# Altium schematic symbol library Symbol.SchLib: 31 symbols
Pins are listed as number, name and electrical type; pins without a type are passive.

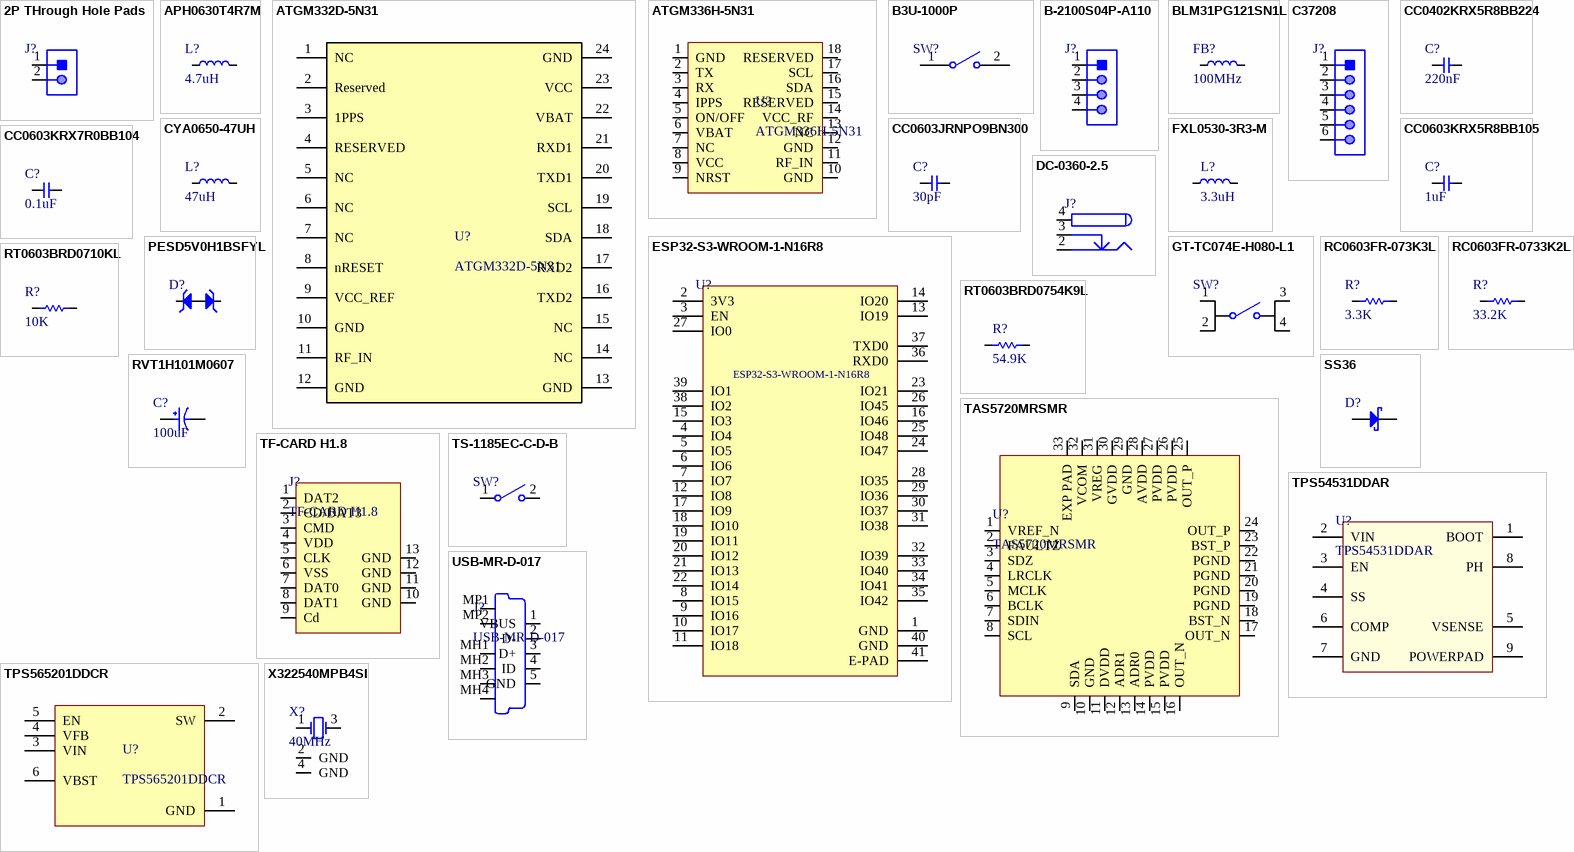
[diagram p0: symbols 2P THrough Hole Pads to X322540MPB4SI]

## 2P THrough Hole Pads
designator J?
Wire Connecting Pad; Manufacturer Part Number: 2P THrough Hole Pads; Item Type: THrough Hole Pads
footprint 2P THrough Hole Pads
pins: 1, 2

## APH0630T4R7M
designator L?, comment 4.7uH
4.7uH 5.15A Molding Choke ±20% 7.47A SMD,7x6.6mm Power Inductors ROHS; Manufacturer: APV; Manufacturer Part Number: APH0630T4R7M; LCSC Part Number: C5349705; Item Type: Inductor; Package: SMD,7x6.6mm; ComponentLink1Description: LCSC; ComponentLink1URL: https://www.lcsc.com/product-detail/Power-Inductors_APV-APH0630T4R7M_C5349705.html
footprint APH0630T4R7M
pins: 1, 2

## ATGM332D-5N31
designator U?
Satellite Positioning Modules ROHS, SMD,12.2x16mm; ComponentLink1Description: LCSC; ComponentLink1URL: https://www.lcsc.com/product-detail/Satellite-Positioning-Modules_ZHONGKEWEI-ATGM332D-5N31_C128659.html
footprint ATGM332D-5N31
pins: 1 NC, 2 Reserved, 3 1PPS, 4 RESERVED, 5 NC, 6 NC, 7 NC, 8 nRESET, 9 VCC_REF, 10 GND, 11 RF_IN, 12 GND, 13 GND, 14 NC, 15 NC, 16 TXD2, 17 RXD2, 18 SDA, 19 SCL, 20 TXD1, 21 RXD1, 22 VBAT, 23 VCC, 24 GND

## ATGM336H-5N31
designator U?
SMD,9.7x10.1mm Satellite Positioning Modules ROHS; Manufacturer: ZHONGKEWEI; Item Type: IC; Manufacturer Part Number: ATGM336H-5N31; Package: SMD,9.7x10.1mm; LCSC Part Number: C90770
footprint ATGM336H
pins: 1 GND, 2 TX, 3 RX, 4 IPPS, 5 ON/OFF, 6 VBAT, 7 NC, 8 VCC, 9 NRST, 10 GND, 11 RF_IN, 12 GND, 13 NC, 14 VCC_RF, 15 RESERVED, 16 SDA, 17 SCL, 18 RESERVED

## B3U-1000P
designator SW?
SWITCH TACTILE SPST-NO 0.05A 12V; Manufacturer: Omron; Manufacturer Part Number: B3U-1000P; Mechanical Life: 200000Cycles; Operating Force: 1.5N; Throw Configuration: SPST; Current Rating: 50mA; Contact Resistance: 100mR; Illumination Type: Non-Illuminated,Illuminated; Switch Travel: 0.15mm; Switch Function: Off-Mom; Actuator Type: Standard; Actuator Length: 0.4mm; Ratings: Dust Proof,IP40; ComponentLink1URL: http://www.farnell.com/datasheets/60838.pdf?src-supplier=Farnell; ComponentLink1Description: http://www.farnell.com/datasheets/60838.pdf?src-supplier=Farnell; ComponentLink2URL: http://www.farnell.com/datasheets/60838.pdf?src-supplier=Element14; ComponentLink2Description: http://www.farnell.com/datasheets/60838.pdf?src-supplier=Element14; ComponentLink3URL: https://omronfs.omron.com/en_US/ecb/products/pdf/en-b3u.pdf?src-supplier=Digi-Key; ComponentLink3Description: https://omronfs.omron.com/en_US/ecb/products/pdf/en-b3u.pdf?src-supplier=Digi-Key; ComponentLink4URL: http://www.omron.com/ecb/products/pdf/en-b3u.pdf?src-supplier=Digi-Key; ComponentLink4Description: http://www.omron.com/ecb/products/pdf/en-b3u.pdf?src-supplier=Digi-Key; ComponentLink5URL: https://www.distrelec.biz/Web/Downloads/he/et/B3U_eng_datasheet.pdf?mime=application%2Fpdf&src-supplier=Distrelec; ComponentLink5Description: https://www.distrelec.biz/Web/Downloads/he/et/B3U_eng_datasheet.pdf?mime=application%2Fpdf&src-supplier=Distrelec; ComponentLink6URL: http://www.onlinecomponents.com/productFiles/mf-OM/en-b3u.pdf?src-supplier=Onlinecomponents.com; ComponentLink6Description: http://www.onlinecomponents.com/productFiles/mf-OM/en-b3u.pdf?src-supplier=Onlinecomponents.com; Supplier 1: Digi-Key; Stock 1: 116454; Pricing 1: 1=1, 10=0.961, 25=0.9064, 50=0.7976, 100=0.7251, 250=0.68888, 500=0.67074, 1000=0.52571 (USD); Mount: Surface Mount; Weight: 0.000776oz; Contact Material: Silver; Min Operating Temperature: -25°C; Max Operating Temperature: 70°C; Packaging: Tape and Reel; Voltage Rating (DC): 12V; Package Quantity: 1; Max Current Rating: 50mA; Termination: SMD/SMT; Orientation: Straight; Max Voltage Rating (DC): 12V; Electrical Life: 200000Cycles; Insulation Resistance: 100MR; Contact Current Rating: 50mA; Length: 4mm; Height: 1.2mm; Depth: 2.5mm; Width: 3mm; REACH SVHC: Unknown; Lead Free: Lead Free; ComponentLink7URL: https://www.verical.com/server-webapp/html/getDatasheet?partID=552554&src-supplier=Verical; ComponentLink7Description: https://www.verical.com/server-webapp/html/getDatasheet?partID=552554&src-supplier=Verical; ComponentLink8URL: http://www.farnell.com/datasheets/1685550.pdf?src-supplier=Element14; ComponentLink8Description: http://www.farnell.com/datasheets/1685550.pdf?src-supplier=Element14; ComponentLink9URL: http://www.farnell.com/datasheets/2610940.pdf?src-supplier=Farnell; ComponentLink9Description: http://www.farnell.com/datasheets/2610940.pdf?src-supplier=Farnell; ComponentLink10URL: https://www.alliedelec.com/m/d/4c8a9ef82804fc3c241a13c1e298fd73.pdf?src-supplier=Allied+Electronics; ComponentLink10Description: https://www.alliedelec.com/m/d/4c8a9ef82804fc3c241a13c1e298fd73.pdf?src-supplier=Allied+Electronics; Supplier Part Number 1: SW1020DKR-ND; LCSC Part Number: C231329; Item Type: Switch
footprint B3U-1000P (SWITCH TACTILE SPST-NO 0.05A 12V)
pins: 1, 2

## B-2100S04P-A110
designator J?
Straight 2.54mm Black Brass 1x4P Plugin,P=2.54mm Pin Headers ROHS; Manufacturer: Ckmtw; Manufacturer Part Number: B-2100S04P-A110; Item Type: Header; LCSC Part Number: C124378; ComponentLink1Description: LCSC; ComponentLink1URL: https://www.lcsc.com/product-detail/Pin-Headers_Ckmtw-Shenzhen-Cankemeng-B-2100S04P-A110_C124378.html
footprint HDR1X4
pins: 1, 2, 3, 4

## BLM31PG121SN1L
designator FB?, comment 100MHz
FERRITE BEAD 120 OHM 1206 1LN; Manufacturer: Murata; Manufacturer Part Number: BLM31PG121SN1L; Material: Steel,Ferrite; Tolerance: 25%; Impedance: 120R; Max Current Rating: 3.5A; Number of Lines: 1; DC Resistance (DCR): 20mR; Max DC Current: 3A; Shielding: Unshielded; Supplier 1: Avnet; RoHS: Yes; Category: Ferrite Beads and Chips; Stock 1: 290640; Pricing 1: 3000=0.11563, 6000=0.10938, 12000=0.10313, 18000=0.09688, 24000=0.09063, 30000=0.08438, 300000=0.07813 (USD); Case/Package: 1206; Number of Pins: 2; Core Material: Ferrite; Case Code (Metric): 3216; Case Code (Imperial): 1206; Contact Plating: Tin,Matte; Min Operating Temperature: -55°C; Max Operating Temperature: 125°C; Package Quantity: 3000; Packaging: Tape and Reel; Current Rating: 3.5A; Termination: SMD/SMT; Test Frequency: 100MHz; DC Current: 3A; Frequency: 100MHz; Length: 3.2mm; Width: 1.6mm; Height: 1.1mm; Depth: 1.6mm; Radiation Hardening: No; Military Standard: Not; Lead Free: Lead Free; RoHS Compliant: Yes; ComponentLink1URL: https://datasheet.ciiva.com/19460/1845419-19460234.pdf?src-supplier=Jameco; ComponentLink1Description: https://datasheet.ciiva.com/19460/1845419-19460234.pdf?src-supplier=Jameco; ComponentLink2URL: https://datasheet.ciiva.com/1012/l0132s0193blm31p-1012992.pdf?src-supplier=Digi-Key; ComponentLink2Description: https://datasheet.ciiva.com/1012/l0132s0193blm31p-1012992.pdf?src-supplier=Digi-Key; ComponentLink3URL: https://datasheet.ciiva.com/11799/0900766b811b5866-11799444.pdf?src-supplier=RSComponents; ComponentLink3Description: https://datasheet.ciiva.com/11799/0900766b811b5866-11799444.pdf?src-supplier=RSComponents; ComponentLink4URL: https://datasheet.ciiva.com/3081/l0110s0100blm31p-3081665.pdf?src-supplier=Avnet; ComponentLink4Description: https://datasheet.ciiva.com/3081/l0110s0100blm31p-3081665.pdf?src-supplier=Avnet; ComponentLink5URL: https://datasheet.ciiva.com/41449/001172383-da-01-en-drossel-1206-120r-3-2x1-60mm-3000st-41449554.pdf?src-supplier=Conrad; ComponentLink5Description: https://datasheet.ciiva.com/41449/001172383-da-01-en-drossel-1206-120r-3-2x1-60mm-3000st-41449554.pdf?src-supplier=Conrad; ComponentLink6URL: https://datasheet.ciiva.com/29348/442557-da-01-en-chip-drossel-1206-120r-3000ma-3-2x1-60mm-29348014.pdf?src-supplier=Conrad; ComponentLink6Description: https://datasheet.ciiva.com/29348/442557-da-01-en-chip-drossel-1206-120r-3000ma-3-2x1-60mm-29348014.pdf?src-supplier=Conrad; ComponentLink7URL: https://datasheet.ciiva.com/14122/apblm31p-data-e-14122856.pdf?src-supplier=Distrelec; ComponentLink7Description: https://datasheet.ciiva.com/14122/apblm31p-data-e-14122856.pdf?src-supplier=Distrelec; ComponentLink8URL: https://datasheet.ciiva.com/48436/blm31pg121sn1l-eng-tds-48436731.pdf?src-supplier=Distrelec; ComponentLink8Description: https://datasheet.ciiva.com/48436/blm31pg121sn1l-eng-tds-48436731.pdf?src-supplier=Distrelec; ComponentLink9URL: https://datasheet.ciiva.com/1012/l0110s0100blm31p-1012991.pdf?src-supplier=Digi-Key; ComponentLink9Description: https://datasheet.ciiva.com/1012/l0110s0100blm31p-1012991.pdf?src-supplier=Digi-Key; ComponentLink10URL: https://datasheet.ciiva.com/1012/l0110s0100blm31p-1012993.pdf?src-supplier=Digi-Key; ComponentLink10Description: https://datasheet.ciiva.com/1012/l0110s0100blm31p-1012993.pdf?src-supplier=Digi-Key; ComponentLink11URL: https://datasheet.ciiva.com/3081/l0110s0100blm31p-3081666.pdf?src-supplier=Avnet; ComponentLink11Description: https://datasheet.ciiva.com/3081/l0110s0100blm31p-3081666.pdf?src-supplier=Avnet; ComponentLink12URL: https://datasheet.ciiva.com/16390/l0110s0100blm31p-16390857.pdf?src-supplier=Future+Electronics; ComponentLink12Description: https://datasheet.ciiva.com/16390/l0110s0100blm31p-16390857.pdf?src-supplier=Future+Electronics; ComponentLink13URL: https://datasheet.ciiva.com/18093/getdatasheetpartid-152966-18093084.pdf?src-supplier=Verical; ComponentLink13Description: https://datasheet.ciiva.com/18093/getdatasheetpartid-152966-18093084.pdf?src-supplier=Verical; Supplier Part Number 1: BLM31PG121SN1L; LCSC Part Number: C85841; Item Type: Ferrite Bead
footprint IND-1206
pins: 1, 2

## C37208
designator J?
Straight 1 6 2.54mm Black Brass Plugin,P=2.54mm Pin Headers ROHS; Manufacturer: BOOMELEC; Manufacturer Part Number: C37208; Item Type: Header; Package: Custom; ComponentLink1Description: New link; ComponentLink1URL: https://www.lcsc.com/product-detail/Pin-Headers_BOOMELE-Boom-Precision-Elec-C37208_C37208.html; LCSC Part Number: C37208
footprint HDR1X6_ (Connector; Header; 6 Position)
pins: 1, 2, 3, 4, 5, 6

## CC0402KRX5R8BB224
designator C?, comment 220nF
CAP CER 0.22UF 25V X5R 0402; Manufacturer: Yageo; Manufacturer Part Number: CC0402KRX5R8BB224; Tolerance: 10%; Supplier 1: Mouser; RoHS: Yes; Category: Ceramic Capacitors; Stock 1: 61266; Pricing 1: 1=0.10000, 10=0.03300, 50=0.03300, 100=0.02700, 1000=0.01500, 10000=0.01300 (USD); Mount: Surface Mount; Case/Package: 0402; Min Operating Temperature: -55°C; Max Operating Temperature: 85°C; Packaging: Tape and Reel; Capacitance: 220nF; Voltage Rating: 25V; Voltage Rating (DC): 25V; Dielectric: X5R; Length: 0.039inch; Width: 0.02inch; Thickness: 0.022inch; Lead Free: Lead Free; Halogen Free: Halogen Free; RoHS Compliant: Yes; ComponentLink1URL: http://www.yageo.com/documents/recent/UPY-GPHC_X5R_4V-to-50V_25.pdf?src-supplier=Digi-Key; ComponentLink1Description: http://www.yageo.com/documents/recent/UPY-GPHC_X5R_4V-to-50V_25.pdf?src-supplier=Digi-Key; ComponentLink2URL: https://www.yageo.com/upload/media/product/productsearch/datasheet/mlcc/UPY-GPHC_X5R_4V-to-50V_26.pdf?src-supplier=Digi-Key; ComponentLink2Description: https://www.yageo.com/upload/media/product/productsearch/datasheet/mlcc/UPY-GPHC_X5R_4V-to-50V_26.pdf?src-supplier=Digi-Key; ComponentLink3URL: http://www.yageo.com/documents/recent/UPY-GPHC_X5R_4V-to-50V_23.pdf?src-supplier=Digi-Key; ComponentLink3Description: http://www.yageo.com/documents/recent/UPY-GPHC_X5R_4V-to-50V_23.pdf?src-supplier=Digi-Key; Supplier Part Number 1: 603-CC402KRX5R8BB224; LCSC Part Number: C326836
footprint Cap-0402
pins: 1, 2

## CC0603JRNPO9BN300
designator C?, comment 30pF
CAP 30pF NP0 0603 50 V ±5 % SMD; Manufacturer: Yageo; Manufacturer Part Number: CC0603JRNPO9BN300; Tolerance: 5%; Dielectric: C0G; Voltage Rating: 50V; Dissipation Factor: 0.1%; Insulation Resistance: 10GR; Supplier 1: Digi-Key; RoHS: Yes; Category: Ceramic Capacitors; Stock 1: 36700; Pricing 1: 1=0.10000, 10=0.06800, 50=0.03700, 100=0.03020, 500=0.02160, 1000=0.01697 (USD); Mount: Surface Mount; Case/Package: 0603; Number of Pins: 2; Case Code (Imperial): 0603; Case Code (Metric): 1608; Weight: 7.1E-05oz; Min Operating Temperature: -55°C; Max Operating Temperature: 125°C; Capacitance: 30pF; Packaging: Tape and Reel; Voltage Rating (DC): 50V; Termination: SMD/SMT; Resistor Type: Ceramic; Series: CC; Construction: Flat; Length: 1.6mm; Width: 0.031inch; Height: 0.8mm; Thickness: 0.035inch; Depth: 0.8mm; Radiation Hardening: No; REACH SVHC: No SVHC; Lead Free: Lead Free; RoHS Compliant: Yes; ComponentLink1URL: https://datasheet.ciiva.com/26862/getdatasheetpartid-403531-26862766.pdf?src-supplier=Verical; ComponentLink1Description: https://datasheet.ciiva.com/26862/getdatasheetpartid-403531-26862766.pdf?src-supplier=Verical; ComponentLink2URL: https://datasheet.ciiva.com/13264/upy-gp-np0-16v-to-50v-8-3714-13264406.pdf?src-supplier=Mouser; ComponentLink2Description: https://datasheet.ciiva.com/13264/upy-gp-np0-16v-to-50v-8-3714-13264406.pdf?src-supplier=Mouser; ComponentLink3URL: https://datasheet.ciiva.com/7978/1132289-7978140.pdf?src-supplier=Element14; ComponentLink3Description: https://datasheet.ciiva.com/7978/1132289-7978140.pdf?src-supplier=Element14; ComponentLink4URL: https://datasheet.ciiva.com/28450/1443161-28450494.pdf?src-supplier=Element14; ComponentLink4Description: https://datasheet.ciiva.com/28450/1443161-28450494.pdf?src-supplier=Element14; Supplier Part Number 1: 311-3357-1-ND; LCSC Part Number: C113797
footprint Cap-0603
pins: 1, 2

## CC0603KRX5R8BB105
designator C?, comment 1uF
CAP CER 1UF 25V X5R 0603; Manufacturer: Yageo; Manufacturer Part Number: CC0603KRX5R8BB105; Tolerance: 10%; Item Type: Capacitor; Supplier 1: Digi-Key; RoHS: Yes; Category: Ceramic Capacitors; Stock 1: 919939; Pricing 1: 1=0.12000, 10=0.08400, 50=0.04760, 100=0.03940, 500=0.02764, 1000=0.02288 (USD); Mount: Surface Mount; Case/Package: 0603; Number of Pins: 2; Case Code (Metric): 1608; Case Code (Imperial): 0603; Min Operating Temperature: -55°C; Max Operating Temperature: 85°C; Capacitance: 1uF; Dielectric: X5R; Package Quantity: 1; Voltage Rating: 25V; Packaging: Tape and Reel; Termination: SMD/SMT; Voltage Rating (DC): 25V; Series: CC; Construction: Flat; Length: 1.6mm; Width: 0.031inch; Height: 0.8mm; Thickness: 0.035inch; Depth: 0.8mm; Radiation Hardening: No; REACH SVHC: No SVHC; Lead Free: Lead Free; Halogen Free: Halogen Free; RoHS Compliant: Yes; ComponentLink1URL: https://datasheet.ciiva.com/176/mlccorderingcode-176785.pdf?src-supplier=Digi-Key; ComponentLink1Description: https://datasheet.ciiva.com/176/mlccorderingcode-176785.pdf?src-supplier=Digi-Key; ComponentLink2URL: https://datasheet.ciiva.com/176/mlccorderingcode-176786.pdf?src-supplier=Digi-Key; ComponentLink2Description: https://datasheet.ciiva.com/176/mlccorderingcode-176786.pdf?src-supplier=Digi-Key; ComponentLink3URL: https://datasheet.ciiva.com/176/mlccorderingcode-176787.pdf?src-supplier=Digi-Key; ComponentLink3Description: https://datasheet.ciiva.com/176/mlccorderingcode-176787.pdf?src-supplier=Digi-Key; ComponentLink4URL: https://datasheet.ciiva.com/17436/upy-gphc-x5r-4v-to-50v-12-17436952.pdf?src-supplier=Avnet+Europe; ComponentLink4Description: https://datasheet.ciiva.com/17436/upy-gphc-x5r-4v-to-50v-12-17436952.pdf?src-supplier=Avnet+Europe; ComponentLink5URL: https://datasheet.ciiva.com/7978/1525783-7978171.pdf?src-supplier=Element14; ComponentLink5Description: https://datasheet.ciiva.com/7978/1525783-7978171.pdf?src-supplier=Element14; ComponentLink6URL: https://datasheet.ciiva.com/11586/upy-gphc-x5r-4v-to-50v-12-11586318.pdf?src-supplier=Avnet; ComponentLink6Description: https://datasheet.ciiva.com/11586/upy-gphc-x5r-4v-to-50v-12-11586318.pdf?src-supplier=Avnet; Supplier Part Number 1: 311-1445-1-ND; LCSC Part Number: C14664
footprint Cap-0603
pins: 1, 2

## CC0603KRX7R0BB104
designator C?, comment 0.1uF
CAP CER 0.1UF 100V X7R 0603; Manufacturer: Yageo; Manufacturer Part Number: CC0603KRX7R0BB104; Capacitance: 100nF; Tolerance: 10%; Item Type: Capacitor; Supplier 1: Digi-Key; RoHS: Yes; Category: Ceramic Capacitors; Stock 1: 60476; Pricing 1: 1=0.19000, 10=0.13500, 50=0.07680, 100=0.06370, 500=0.04466, 1000=0.03696 (USD); Mount: Surface Mount; Case/Package: 0603; Case Code (Metric): 1608; Case Code (Imperial): 0603; Weight: 7.1E-05oz; Min Operating Temperature: -55°C; Max Operating Temperature: 125°C; Package Quantity: 4000; Voltage Rating: 100V; Packaging: Tape and Reel; Dielectric: X7R; Termination: SMD/SMT; Resistor Type: Ceramic; Voltage Rating (DC): 100V; Series: CC; Length: 0.063inch; Width: 0.031inch; Thickness: 0.035inch; Depth: 0.8mm; Lead Free: Lead Free; RoHS Compliant: Yes; ComponentLink1URL: https://datasheet.ciiva.com/6277/mlccorderingcode-6277030.pdf?src-supplier=Digi-Key; ComponentLink1Description: https://datasheet.ciiva.com/6277/mlccorderingcode-6277030.pdf?src-supplier=Digi-Key; ComponentLink2URL: https://datasheet.ciiva.com/6277/mlccorderingcode-6277081.pdf?src-supplier=Digi-Key; ComponentLink2Description: https://datasheet.ciiva.com/6277/mlccorderingcode-6277081.pdf?src-supplier=Digi-Key; ComponentLink3URL: https://datasheet.ciiva.com/6277/mlccorderingcode-6277082.pdf?src-supplier=Digi-Key; ComponentLink3Description: https://datasheet.ciiva.com/6277/mlccorderingcode-6277082.pdf?src-supplier=Digi-Key; Supplier Part Number 1: 311-1523-1-ND; LCSC Part Number: C113803
footprint Cap-0603
pins: 1, 2

## CYA0650-47UH
designator L?, comment 47uH
47uH 2A ±20% 250mΩ SMD,6.6x7.2mm Inductors (SMD) ROHS; Manufacturer: SHOU HAN; Manufacturer Part Number: CYA0650-47UH; Package: SMD,6.6x7.2mm; LCSC Part Number: C5189938; Item Type: Inductor; ComponentLink1Description: LCSC; ComponentLink1URL: https://www.lcsc.com/product-detail/Inductors-SMD_SHOU-HAN-CYA0650-47UH_C5189938.html
footprint CYA0650-47UH
pins: 1, 2

## DC-0360-2.5
designator J?
DC Power Receptacle 260℃ Brass -20℃~+70℃ 2.5mm 6mm 2.5A 24V Plugin AC/DC Power Connectors ROHS; Manufacturer: XKB Connectivity; Manufacturer Part Number: DC-0360-2.5; Item Type: DC Jack; Package: Plugin; LCSC Part Number: C319122; ComponentLink1Description: LCSC; ComponentLink1URL: https://www.lcsc.com/product-detail/AC-DC-Power-Connectors_XKB-Connectivity-DC-0360-2-5_C319122.html
footprint DC-0360-2.5
pins: 2 (power), 3 (power), 4 (power)

## ESP32-S3-WROOM-1-N16R8
designator U?
ESP32-S3 chip 2.4GHz SMD,18x25.5mm WiFi Modules ROHS; Manufacturer: Expressif System; Manufacturer Part Number: ESP32-S3-WROOM-1-N8; Item Type: IC; Package: SMD,18x25.5mm; LCSC Part Number: C2913198; ComponentLink1URL: https://www.lcsc.com/product-detail/WiFi-Modules_Espressif-Systems-ESP32-S3-WROOM-1-N8_C2913198.html; ComponentLink1Description: LCSC
footprint 41-SMD Module
pins: 1 GND, 2 3V3, 3 EN, 4 IO4, 5 IO5, 6 IO6, 7 IO7, 8 IO15, 9 IO16, 10 IO17, 11 IO18, 12 IO8, 13 IO19, 14 IO20, 15 IO3, 16 IO46, 17 IO9, 18 IO10, 19 IO11, 20 IO12, 21 IO13, 22 IO14, 23 IO21, 24 IO47, 25 IO48, 26 IO45, 27 IO0, 28 IO35, 29 IO36, 30 IO37, 31 IO38, 32 IO39, 33 IO40, 34 IO41, 35 IO42, 36 RXD0, 37 TXD0, 38 IO2, 39 IO1, 40 GND, 41 E-PAD

## FXL0530-3R3-M
designator L?, comment 3.3uH
5.5A 3.3uH Molding Choke ±20% 6A SMD,5.2x5.4mm Power Inductors ROHS; Manufacturer: cjiang (Changjiang Microelectronics Tech); Manudacturer Part Number: FXL0530-3R3-M; LCSC Part Number: C475518; Item Type: inductor; Package: SMD,5.2x5.4mm; ComponentLink1Description: LCSC Link; ComponentLink1URL: https://www.lcsc.com/product-detail/Power-Inductors_cjiang-Changjiang-Microelectronics-Tech-FXL0530-3R3-M_C475518.html
footprint FXL0530-3R3-M
pins: 1, 2

## GT-TC074E-H080-L1
designator SW?
No NO 50mA 100MΩ 100000 Times 12V 130gf@±30gf Brick nogging SPST SMD Tactile Switches ROHS; Manufacturer: G-Switch; Manufacturer Part Number: GT-TC074E-H080-L1; Package: SMD; LCSC Part Number: C963229; Item Type: Tactile Switch; ComponentLink1Description: LCSC; ComponentLink1URL: https://www.lcsc.com/product-detail/Tactile-Switches_G-Switch-GT-TC074E-H080-L1_C963229.html
footprint GT-TC074E-H080-L1
pins: 1, 2, 3, 4

## PESD5V0H1BSFYL
designator D?
TVS DIODE 5VWM 6.3VC DSN0603-2; Manufacturer: Nexperia; Manufacturer Part Number: PESD5V0H1BSFYL; Supplier 1: Avnet; RoHS: Yes; Category: ESD and Circuit Protection ICs; Stock 1: 9000; Pricing 1: 18000=0.06453, 36000=0.06278, 54000=0.06104, 90000=0.05930, 180000=0.05755, 900000=0.05581, 1800000=0.05406 (USD); RoHS Compliant: Yes; ComponentLink1URL: http://www.farnell.com/datasheets/1961312.pdf?src-supplier=Farnell; ComponentLink1Description: http://www.farnell.com/datasheets/1961312.pdf?src-supplier=Farnell; ComponentLink2URL: https://assets.nexperia.com/documents/data-sheet/PESD5V0H1BSF.pdf?src-supplier=Digi-Key; ComponentLink2Description: https://assets.nexperia.com/documents/data-sheet/PESD5V0H1BSF.pdf?src-supplier=Digi-Key; ComponentLink3URL: http://www.farnell.com/datasheets/1961312.pdf?src-supplier=Newark; ComponentLink3Description: http://www.farnell.com/datasheets/1961312.pdf?src-supplier=Newark; Supplier Part Number 1: PESD5V0H1BSFYL; LCSC Part Number: C477989; Item Type: Diode
footprint DSN0603-2
pins: 1, 2

## RC0603FR-073K3L
designator R?, comment 3.3K
RES SMD 3.3K OHM 1% 1/10W 0603; Manufacturer: Yageo Phycomp; Manufacturer Part Number: RC0603FR-073K3L; Temperature Coefficient: 100ppm/°C; Resistance: 3.3kR; Voltage Rating (DC): 50V; Power Rating: 100mW; Item Type: Resistor; Supplier 1: Digi-Key; Stock 1: 6863000; Pricing 1: 1=0.1, 10=0.024, 100=0.0097, 1000=0.00437, 2500=0.00379 (USD); Mount: Surface Mount; Case/Package: 0603; Number of Pins: 2; Min Operating Temperature: -55°C; Max Operating Temperature: 155°C; Tolerance: 1%; Packaging: Cut Tape; Length: 1.6mm; Height: 0.45mm; Width: 800um; Depth: 0.8mm; REACH SVHC: No SVHC; Lead Free: Lead Free; Supplier Part Number 1: 311-3.30KHRCT-ND; LCSC Part Number: C108078
footprint Res-0603
pins: 1, 2

## RC0603FR-0733K2L
designator R?, comment 33.2K
RES 33.2K OHM 1% 1/10W 0603; Manufacturer: Yageo; Manufacturer Part Number: RC0603FR-0733K2L; Resistance: 33.2kR; Power Rating: 100mW; Voltage Rating: 50V; Temperature Coefficient: 100ppm/°C; Supplier 1: Digi-Key; RoHS: Yes; Category: Chip SMD Resistors; Stock 1: 1293262; Pricing 1: 1=0.10000, 10=0.02300, 100=0.00930, 1000=0.00417, 2500=0.00362 (USD); Mount: Surface Mount; Case/Package: 0603; Case Code (Imperial): 0603; Case Code (Metric): 1608; Size Code: 0603; Min Operating Temperature: -55°C; Max Operating Temperature: 155°C; Tolerance: 1%; Packaging: Tape and Reel; Termination: SMD/SMT; Resistor Type: Thick Film; Voltage Rating (DC): 50V; Features: Moisture Resistant; Series: RC; Max Power Dissipation: 100mW; Number of Terminations: 2; Construction: Rectangular; Technology: THICK FILM; Length: 1.6mm; Height: 0.45mm; Depth: 0.8mm; Military Standard: Not; Lead Free: Lead Free; RoHS Compliant: Yes; ComponentLink1URL: https://datasheet.ciiva.com/11808/0900766b80f96399-11808316.pdf?src-supplier=RSComponents; ComponentLink1Description: https://datasheet.ciiva.com/11808/0900766b80f96399-11808316.pdf?src-supplier=RSComponents; Supplier Part Number 1: 311-33.2KHRCT-ND; LCSC Part Number: C185338
footprint Res-0603
pins: 1, 2

## RT0603BRD0710KL
designator R?, comment 10K
RES SMD 10K OHM 0.1% 1/10W 0603; Manufacturer: Yageo; Manufacturer Part Number: RT0603BRD0710KL; Power: 100mW; Rated Temperature: 70°C; Value: 10kR; Temperature Coefficient: 25ppm/°C; Working Voltage: 75V; Package Height: 0.45mm; Package Length: 1.6mm; Package Width: 0.8mm; Item Type: Resistor; Supplier 1: Rs; RoHS: Yes; Category: Chip SMD Resistors; Stock 1: 20510; Pricing 1: 100=0.29800, 250=0.27800, 500=0.25900, 1000=0.23700 (GBP); Mounting Technology: Surface Mount; Pins: 2; Case/Package: 0603; Min Operating Temperature: -55°C; Max Operating Temperature: 155°C; Tolerance: 0.1%; Resistor Type: FIXED RESISTOR; Construction: Chip; Package Style: SMTMeter; Packaging: Tape and Reel; Technology: THIN FILM; Termination: Wraparound; Reach SVHC Compliant: Yes; RoHS Compliant: Yes; ComponentLink1URL: https://datasheet.ciiva.com:443/pdfs/VipMasterIC/IC/YAGO/YAGO-S-A0008510989/YAGO-S-A0008510989-1.pdf?src-supplier=IHS+Markit; ComponentLink1Description: https://datasheet.ciiva.com:443/pdfs/VipMasterIC/IC/YAGO/YAGO-S-A0008510989/YAGO-S-A0008510989-1.pdf?src-supplier=IHS+Markit; ComponentLink2URL: https://datasheet.ciiva.com/5624/pyu-rt-1-to-0-05-rohs-l-4-5624351.pdf?src-supplier=Mouser; ComponentLink2Description: https://datasheet.ciiva.com/5624/pyu-rt-1-to-0-05-rohs-l-4-5624351.pdf?src-supplier=Mouser; ComponentLink3URL: https://datasheet.ciiva.com/29721/pyu-rt-1-to-0-05-rohs-l-4-29721177.pdf?src-supplier=Digi-Key; ComponentLink3Description: https://datasheet.ciiva.com/29721/pyu-rt-1-to-0-05-rohs-l-4-29721177.pdf?src-supplier=Digi-Key; Supplier Part Number 1: 1991391P; LCSC Part Number: C95204
footprint Res-0603
pins: 1, 2

## RT0603BRD0754K9L
designator R?, comment 54.9K
100mW Thin Film Resistor 75V ±25ppm/℃ ±0.1% 54.9kΩ 0603 Chip Resistor - Surface Mount ROHS; Manufacturer: YAGEO; Manufacturer Part Number: RT0603BRD0754K9L; LCSC Part Number: C728593; Item Type: Resistor; Package: 0603
footprint Res-0603
pins: 1, 2

## RVT1H101M0607
designator C?, comment 100uF
100uF 50V ±20% SMD,D6.3xL7.7mm Aluminum Electrolytic Capacitors - SMD ROHS; Manufacturer: ROQANG; Manufacturer Part Number: RVT1H101M0607; Package: SMD,D6.3xL7.7mm; LCSC Part Number: C3151829; Item Type: Capacitor; ComponentLink1Description: LCSC; ComponentLink1URL: https://www.lcsc.com/product-detail/Aluminum-Electrolytic-Capacitors-SMD_ROQANG-RVT1H101M0607_C3151829.html
footprint RVT1H101M0607
pins: 1, 2

## SS36
designator D?
Schottky Barrier Diode SK36, DO-214AB, 3A/60V; Manufacturer: ON Semiconductor / Fairchild; Manufacturer Part Number: SS36; Output Current: 3A; Element Configuration: Single; Forward Voltage: 750mV; Max Repetitive Reverse Voltage (Vrrm): 60V; Max Forward Surge Current (Ifsm): 100A; Max Reverse Current: 500uA; Polarity: Standard; Power Dissipation: 2.27W; Supplier 1: Rs; RoHS: Yes; Category: Schottky Diodes; Stock 1: 100; Pricing 1: 100=0.43800, 500=0.34200, 1000=0.27800, 3000=0.25000 (GBP); Mount: Surface Mount; Case/Package: SMC; Number of Pins: 2; Min Operating Temperature: -55°C; Max Operating Temperature: 150°C; Packaging: Tape and Reel; Package Quantity: 3000; Series: -; Forward Current: 3A; Peak Non-Repetitive Surge Current: 100A; Voltage Rating (DC): 60V; Current Rating: 3A; Max Surge Current: 100A; Average Rectified Current: 3A; Max Reverse Leakage Current: 500uA; Max Reverse Voltage (DC): 60V; Current: 3A; Voltage: 60V; Radiation Hardening: No; RoHS Compliant: Yes; Reach SVHC Compliant: Yes; Lead Free: Lead Free; ComponentLink1URL: https://datasheet.ciiva.com/4714/ss36-197193-4714610.pdf?src-supplier=Mouser; ComponentLink1Description: https://datasheet.ciiva.com/4714/ss36-197193-4714610.pdf?src-supplier=Mouser; ComponentLink2URL: https://datasheet.ciiva.com/16889/ss36-16889545.pdf?src-supplier=Future+Electronics; ComponentLink2Description: https://datasheet.ciiva.com/16889/ss36-16889545.pdf?src-supplier=Future+Electronics; ComponentLink3URL: https://datasheet.ciiva.com/920/ss34-920433.pdf?src-supplier=Digi-Key; ComponentLink3Description: https://datasheet.ciiva.com/920/ss34-920433.pdf?src-supplier=Digi-Key; ComponentLink4URL: https://datasheet.ciiva.com/920/ss34-920434.pdf?src-supplier=Digi-Key; ComponentLink4Description: https://datasheet.ciiva.com/920/ss34-920434.pdf?src-supplier=Digi-Key; ComponentLink5URL: https://datasheet.ciiva.com/920/ss34-920435.pdf?src-supplier=Digi-Key; ComponentLink5Description: https://datasheet.ciiva.com/920/ss34-920435.pdf?src-supplier=Digi-Key; Supplier Part Number 1: 9034425P; LCSC Part Number: C16015; Item Type: Diode
footprint SMA
pins: 1 K, 2 A

## TAS5720MRSMR
designator U?
20Wx1@4Ω VQFN-32(4x4) Audio Power OpAmps ROHS; Manufacturer: Texas Instruments; Item Type: Audio Amp; Manufacturer Part number: TAS5720MRSMR; LCSC Part Number: C5214961; ComponentLink1Description: LCSC Link; ComponentLink1URL: https://www.lcsc.com/product-detail/Audio-Power-OpAmps_Texas-Instruments-TAS5720MRSMR_C5214961.html; Package: VQFN-32(4x4)
footprint TAS5720M
pins: 1 VREF_N, 2 FAULTZ, 3 SDZ, 4 LRCLK, 5 MCLK, 6 BCLK, 7 SDIN, 8 SCL, 9 SDA, 10 GND, 11 DVDD, 12 ADR1, 13 ADR0, 14 PVDD, 15 PVDD, 16 OUT_N, 17 OUT_N, 18 BST_N, 19 PGND, 20 PGND, 21 PGND, 22 PGND, 23 BST_P, 24 OUT_P, 25 OUT_P, 26 PVDD, 27 PVDD, 28 AVDD, 29 GND, 30 GVDD, 31 VREG, 32 VCOM, 33 EXP PAD

## TF-CARD H1.8
designator J?
-40℃~+70℃ 1.8mm Gold Deck MicroSD card (TF card) Copper Alloy Self bomb SMD SD Card Connectors ROHS
footprint TF-CARD H1.8
pins: 1 DAT2, 2 CD/DAT3, 3 CMD, 4 VDD, 5 CLK, 6 VSS, 7 DAT0, 8 DAT1, 9 Cd, 10 GND, 11 GND, 12 GND, 13 GND

## TPS54531DDAR
designator U?
3.5V to 28V Input, 5A, 570kHz Step-Down Converter with Eco-mode 8-SO PowerPAD -40 to 85; MF: Texas Instruments; MP: TPS54531DDAR; Check_prices: https://www.snapeda.com/parts/TPS54531DDAR/Texas%20Instruments/view-part/476481/?ref=eda; Price: None; SnapEDA_Link: https://www.snapeda.com/parts/TPS54531DDAR/Texas%20Instruments/view-part/476481/?ref=snap; Package: HSOIC-8 Texas Instruments; Purchase-URL: https://pricing.snapeda.com/search/part/TPS54531DDAR/?ref=eda; Availability: Warning; ComponentLink1Description: LCSC; ComponentLink1URL: https://www.lcsc.com/product-detail/DC-DC-Converters_Texas-Instruments-TPS54531DDAR_C50605.html
footprint CONV_TPS54531DDAR
pins: 1 BOOT, 2 VIN, 3 EN, 4 SS, 5 VSENSE, 6 COMP, 7 GND, 8 PH, 9 POWERPAD

## TPS565201DDCR
designator U?
4.5V to 17V, 5A, Synchronous Step-Down Voltage Regulator in SOT23 6-SOT-23-THIN -40 to 125; MF: Texas Instruments; Availability: Warning; Texas_Instruments-Purchase-URL: https://snapeda.com/shop?store=Texas+Instruments&id=2751914; Package: SOT-23-THN-6 Texas Instruments; MP: TPS565201DDCR; DigiKey-Purchase-URL: https://snapeda.com/shop?store=DigiKey&id=2751914; SnapEDA_Link: https://www.snapeda.com/parts/TPS565201DDCR/Texas%20Instruments/view-part/2751914/?ref=snap; Mouser-Purchase-URL: https://snapeda.com/shop?store=Mouser&id=2751914; Value: *; Price: None; Manufacturer: Texas Instruments; Manufacturer Part Number: TPS565201DDCR; LCSC Part Number: C327676
footprint TPS565201DDCR
pins: 1 GND (power), 2 SW (power), 3 VIN (power), 4 VFB (oe), 5 EN (oe), 6 VBST (oe)

## TS-1185EC-C-D-B
designator SW?
3mm 2mm Round Button 50mA Top3.65mm SPST 12V SMD Tactile Switches; Manufacturer: XKB; Manufacturer Part Number: TS-1185EC-C-D-B; Footprint: Custom; ComponentLink1Description: LCSC; ComponentLink1URL: https://lcsc.com/product-detail/Tactile-Switches_XKB-Connectivity-TS-1185EC-C-D-B_C318893.html; LCSC Part Number: C318893
footprint TS-1185EC-C-D-B_
pins: 1, 2

## USB-MR-D-017
designator J?
2A 1 Surface Mount 5P Female Micro-B SMD USB Connectors ROHS; Manufacturer: DEALON; Manufacture Part no: USB-MR-D-017; Package: SMD; LCSC Part no: C2926988; Item Type: USB; ComponentLink1Description: LCSC; ComponentLink1URL: https://www.lcsc.com/product-detail/span-style-background-color-ff0-USB-span-Connectors_DEALON-USB-MR-D-017_C2926988.html
footprint USB-MR-D-017
pins: 1 VBUS, 2 D- "USB Data - [White]", 3 D+ "USB Data + [Green]", 4 ID, 5 GND, MH1 Tab "Shell", MH2 Tab "Shell", MH3 Tab "Shell", MH4 Tab "Shell", MP1 Tab "Shell", MP2 Tab "Shell"

## X322540MPB4SI
designator X?, comment 40MHz
40MHz SMD Crystal Resonator 15pF SMD3225-4P Crystals ROHS; Manufacturer: YXC; Manufacturer Part Number: X322540MPB4SI; Value: 40MHZ; LCSC Part Number: C9010; ComponentLink1Description: LCSC; ComponentLink1URL: https://www.lcsc.com/product-detail/Crystals_Yangxing-Tech-X322540MPB4SI_C9010.html; Item Type: Crystal
footprint X322540MPB4SI_
pins: 1 CRYSTAL, 2 GND, 3 CRYSTAL, 4 GND